# Altium schematic symbol library 驱动原理图库.SchLib: 1 symbol
Pins are listed as number, name and electrical type; pins without a type are passive.

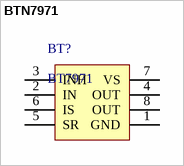
[diagram p0: symbol BTN7971]

## BTN7971
designator BT?, comment BT7971
footprint TO263-7A (263，7脚晶体管    封装库来自淘宝卖家 ID：黄晶宝石)
pins: 1 GND, 2 IN, 3 INH, 4 OUT, 5 SR, 6 IS, 7 VS, 8 OUT